# Altium schematic symbol library Crystals.SchLib: 7 symbols
Pins are listed as number, name and electrical type; pins without a type are passive.

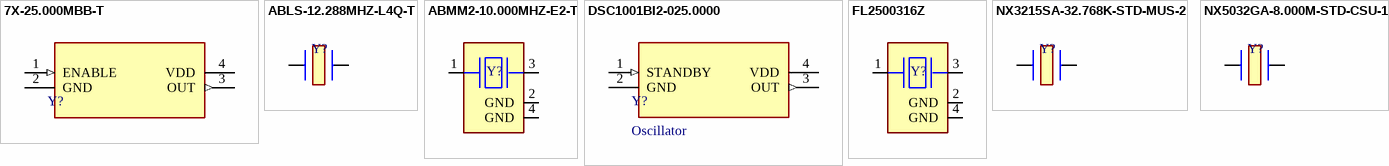
[diagram p0: symbols 7X-25.000MBB-T to NX5032GA-8.000M-STD-CSU-1]

## 7X-25.000MBB-T
designator Y?, comment Oscillator  (value not drawn)
Standard Clock Oscillators 25.000MHz 3.3V50ppm(-10 +70C); ComponentLink1Description: New link
footprint 7X-25.000MBB-T
pins: 1 ENABLE (in), 2 GND (power), 3 OUT (out), 4 VDD (power)

## ABLS-12.288MHZ-L4Q-T
designator Y?, comment Crystal  (value not drawn)
12.288 MHz ±30ppm Crystal 18pF 50 Ohms HC-49/US; ComponentLink1Description: New link
footprint ABLS-12.288MHZ-L4Q-T
pins: 1, 2

## ABMM2-10.000MHZ-E2-T
designator Y?, comment Crystal  (value not drawn)
10 MHz ±20ppm Crystal 18pF 50 Ohms 4-SMD, No Lead; ComponentLink1Description: New link
footprint ABMM2-10.000MHZ-E2-T
pins: 1, 2 GND (power), 3 2, 4 GND (power)

## DSC1001BI2-025.0000
designator Y?, comment Oscillator
Standard Clock Oscillators 5032 pkg -40-85C 25ppm 025.0000MHz; ComponentLink1Description: New link
footprint DSC1001BI2-025.0000
pins: 1 STANDBY (in), 2 GND (power), 3 OUT (out), 4 VDD (power)

## FL2500316Z
designator Y?, comment Crystal  (value not drawn)
25 MHz ±20ppm Crystal 20pF 30 Ohms 4-SMD, No Lead; ComponentLink1Description: New link
footprint FL2500316Z
pins: 1, 2 GND (power), 3 2, 4 GND (power)

## NX3215SA-32.768K-STD-MUS-2
designator Y?, comment Crystal  (value not drawn)
32.768 kHz ±20ppm Crystal 12.5pF 70 kOhms 2-SMD, No Lead; ComponentLink1Description: New link
footprint NX3215SA-32.768K-STD-MUS-2
pins: 1, 2

## NX5032GA-8.000M-STD-CSU-1
designator Y?, comment Crystal  (value not drawn)
8 MHz ±50ppm Crystal 8pF 300 Ohms 2-SMD, No Lead; ComponentLink1Description: New link
footprint NX5032GA-8.000M-STD-CSU-1
pins: 1, 2